# Altium schematic symbol library STM32F401CC.SchLib: 5 symbols
Pins are listed as number, name and electrical type; pins without a type are passive.

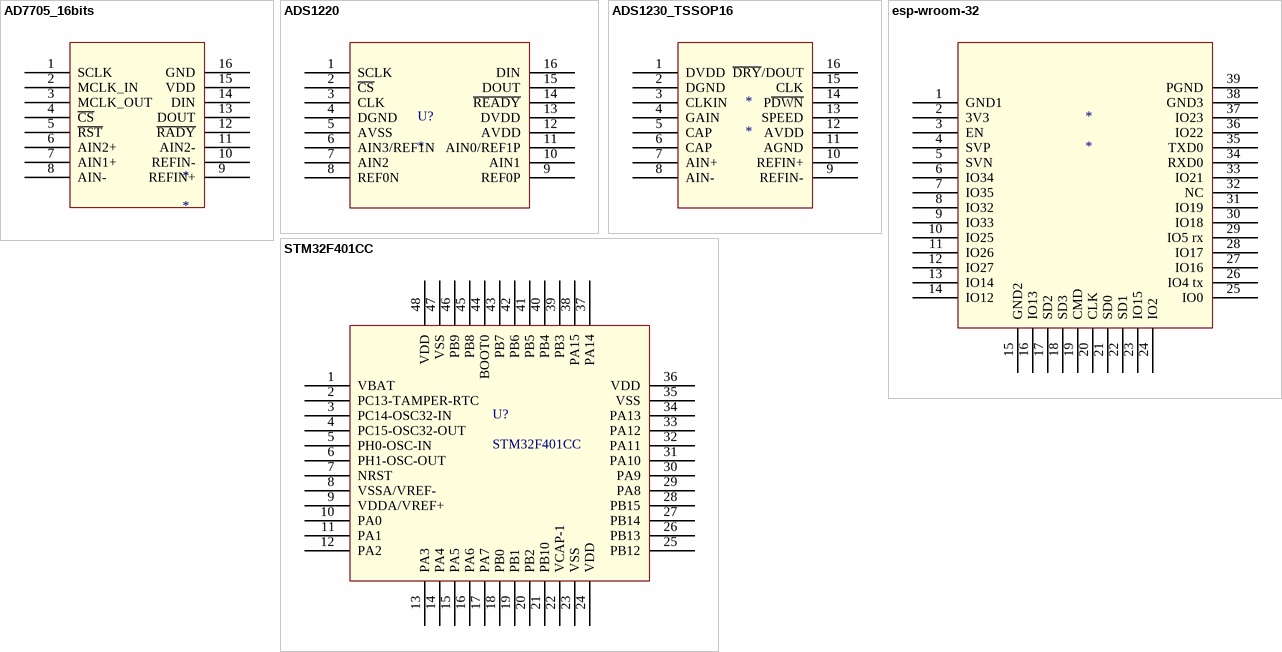
[diagram p0: symbols AD7705_16bits to STM32F401CC]

## AD7705_16bits
designator *
pins: 1 SCLK, 2 MCLK_IN, 3 MCLK_OUT, 4 ~{CS}, 5 ~{RST}, 6 AIN2+, 7 AIN1+, 8 AIN-, 9 REFIN+, 10 REFIN-, 11 AIN2-, 12 ~{RADY}, 13 DOUT, 14 DIN, 15 VDD, 16 GND

## ADS1220
designator U?
pins: 1 SCLK, 2 ~{CS}, 3 CLK, 4 DGND, 5 AVSS, 6 AIN3/REF1N, 7 AIN2, 8 REF0N, 9 REF0P, 10 AIN1, 11 AIN0/REF1P, 12 AVDD, 13 DVDD, 14 ~{READY}, 15 DOUT, 16 DIN

## ADS1230_TSSOP16
designator *
pins: 1 DVDD, 2 DGND, 3 CLKIN, 4 GAIN, 5 CAP, 6 CAP, 7 AIN+, 8 AIN-, 9 REFIN-, 10 REFIN+, 11 AGND, 12 AVDD, 13 SPEED, 14 P~{DWN}, 15 CLK, 16 ~{DRY}/DOUT

## esp-wroom-32
designator *
pins: 1 GND1, 2 3V3, 3 EN, 4 SVP, 5 SVN, 6 IO34, 7 IO35, 8 IO32, 9 IO33, 10 IO25, 11 IO26, 12 IO27, 13 IO14, 14 IO12, 15 GND2, 16 IO13, 17 SD2, 18 SD3, 19 CMD, 20 CLK, 21 SD0, 22 SD1, 23 IO15, 24 IO2, 25 IO0, 26 IO4 tx, 27 IO16, 28 IO17, 29 IO5 rx, 30 IO18, 31 IO19, 32 NC, 33 IO21, 34 RXD0, 35 TXD0, 36 IO22, 37 IO23, 38 GND3, 39 PGND

## STM32F401CC
designator U?
pins: 1 VBAT, 2 PC13-TAMPER-RTC, 3 PC14-OSC32-IN, 4 PC15-OSC32-OUT, 5 PH0-OSC-IN, 6 PH1-OSC-OUT, 7 NRST, 8 VSSA/VREF-, 9 VDDA/VREF+, 10 PA0, 11 PA1, 12 PA2, 13 PA3, 14 PA4, 15 PA5, 16 PA6, 17 PA7, 18 PB0, 19 PB1, 20 PB2, 21 PB10, 22 VCAP-1, 23 VSS, 24 VDD, 25 PB12, 26 PB13, 27 PB14, 28 PB15, 29 PA8, 30 PA9, 31 PA10, 32 PA11, 33 PA12, 34 PA13, 35 VSS, 36 VDD, 37 PA14, 38 PA15, 39 PB3, 40 PB4, 41 PB5, 42 PB6, 43 PB7, 44 BOOT0, 45 PB8, 46 PB9, 47 VSS, 48 VDD